# Altium schematic symbol library fpga.SchLib: 19 symbols (part 1 of 2)
Pins are listed as number, name and electrical type; pins without a type are passive.

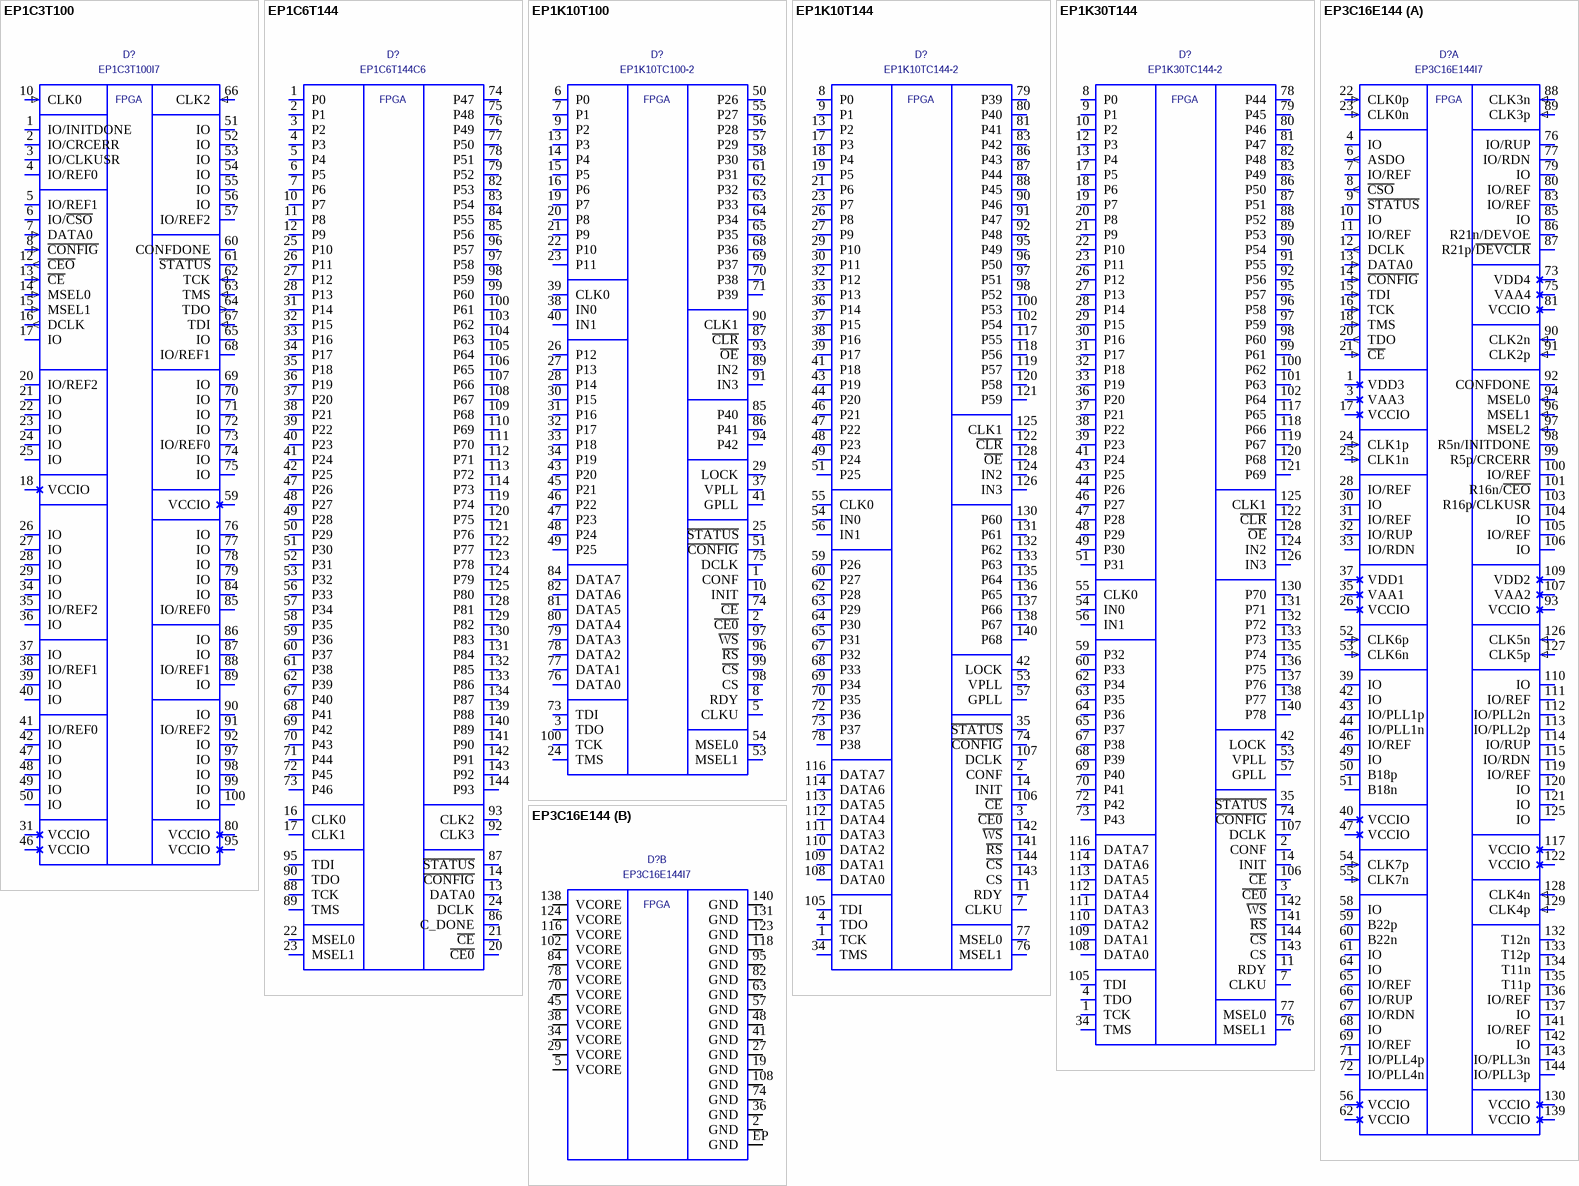
[diagram p0: symbols EP1C3T100 to EP3C16E144]

## EP1C3T100
designator D?  value EP1C3T100I7  (hidden comment: EP1C3T100)
footprint TQFP100
pins: 1 IO/INITDONE, 2 IO/CRCERR, 3 IO/CLKUSR, 4 IO/REF0, 5 IO/REF1, 6 IO/~{CSO}, 7 DATA0 (in), 8 ~{CONFIG} (in), 9 VCCINT (power) hidden, 10 CLK0 (in), 11 GND (power) hidden, 12 ~{CEO} (out), 13 ~{CE} (in), 14 MSEL0 (in), 15 MSEL1 (in), 16 DCLK (out), 17 IO, 18 VCCIO (power), 19 GND (power) hidden, 20 IO/REF2, 21 IO, 22 IO, 23 IO, 24 IO, 25 IO, 26 IO, 27 IO, 28 IO, 29 IO, 30 GND (power) hidden, 31 VCCIO (power), 32 GND (power) hidden, 33 VCCINT (power) hidden, 34 IO, 35 IO/REF2, 36 IO, 37 IO, 38 IO/REF1, 39 IO, 40 IO, 41 IO/REF0, 42 IO, 43 GND (power) hidden, 44 VCCINT (power) hidden, 45 GND (power) hidden, 46 VCCIO (power), 47 IO, 48 IO, 49 IO, 50 IO, 51 IO, 52 IO, 53 IO, 54 IO, 55 IO, 56 IO, 57 IO/REF2, 58 GND (power) hidden, 59 VCCIO (power), 60 CONFDONE (io), 61 ~{STATUS} (io), 62 TCK (in), 63 TMS (in), 64 TDO (out), 65 IO, 66 CLK2 (in), 67 TDI (in), 68 IO/REF1, 69 IO, 70 IO, 71 IO, 72 IO, 73 IO/REF0, 74 IO, 75 IO, 76 IO, 77 IO, 78 IO, 79 IO, 80 VCCIO (power), 81 GND (power) hidden, 82 VCCINT (power) hidden, 83 GND (power) hidden, 84 IO, 85 IO/REF0, 86 IO, 87 IO, 88 IO/REF1, 89 IO, 90 IO, 91 IO/REF2, 92 IO, 93 VCCINT (power) hidden, 94 GND (power) hidden, 95 VCCIO (power), 96 GND (power) hidden, 97 IO, 98 IO, 99 IO, 100 IO
text: FPGA

## EP1C6T144
designator D?  value EP1C6T144C6  (hidden comment: EP1C6T144)
footprint TQFP144
pins: 1 P0, 2 P1, 3 P2, 4 P3, 5 P4, 6 P5, 7 P6, 8 VIO (power) hidden, 9 GND (power) hidden, 10 P7, 11 P8, 12 P9, 13 DATA0, 14 ~{CONFIG}, 15 VINT (power) hidden, 16 CLK0, 17 CLK1, 18 GND (power) hidden, 19 GND (power) hidden, 20 ~{CE0}, 21 ~{CE}, 22 MSEL0, 23 MSEL1, 24 DCLK, 25 P10, 26 P11, 27 P12, 28 P13, 29 VIO (power) hidden, 30 GND (power) hidden, 31 P14, 32 P15, 33 P16, 34 P17, 35 P18, 36 P19, 37 P20, 38 P21, 39 P22, 40 P23, 41 P24, 42 P25, 43 GND (power) hidden, 44 VIO (power) hidden, 45 GND (power) hidden, 46 VINT (power) hidden, 47 P26, 48 P27, 49 P28, 50 P29, 51 P30, 52 P31, 53 P32, 54 GND (power) hidden, 55 VINT (power) hidden, 56 P33, 57 P34, 58 P35, 59 P36, 60 P37, 61 P38, 62 P39, 63 GND (power) hidden, 64 VINT (power) hidden, 65 GND (power) hidden, 66 VIO (power) hidden, 67 P40, 68 P41, 69 P42, 70 P43, 71 P44, 72 P45, 73 P46, 74 P47, 75 P48, 76 P49, 77 P50, 78 P51, 79 P52, 80 GND (power) hidden, 81 VIO (power) hidden, 82 P53, 83 P54, 84 P55, 85 P56, 86 C_DONE, 87 ~{STATUS}, 88 TCK, 89 TMS, 90 TDO, 91 GND (power) hidden, 92 CLK3, 93 CLK2, 94 VINT (power) hidden, 95 TDI, 96 P57, 97 P58, 98 P59, 99 P60, 100 P61, 101 GND (power) hidden, 102 VIO (power) hidden, 103 P62, 104 P63, 105 P64, 106 P65, 107 P66, 108 P67, 109 P68, 110 P69, 111 P70, 112 P71, 113 P72, 114 P73, 115 VIO (power) hidden, 116 GND (power) hidden, 117 VINT (power) hidden, 118 GND (power) hidden, 119 P74, 120 P75, 121 P76, 122 P77, 123 P78, 124 P79, 125 P80, 126 VINT (power) hidden, 127 GND (power) hidden, 128 P81, 129 P82, 130 P83, 131 P84, 132 P85, 133 P86, 134 P87, 135 VINT (power) hidden, 136 GND (power) hidden, 137 VIO (power) hidden, 138 GND (power) hidden, 139 P88, 140 P89, 141 P90, 142 P91, 143 P92, 144 P93
text: FPGA

## EP1K10T100
designator D?  value EP1K10TC100-2  (hidden comment: EP1K10T100)
footprint TQFP100
pins: 1 CONF, 2 ~{CE0}, 3 TDO, 4 VCC (power) hidden, 5 CLKU, 6 P0, 7 P1, 8 RDY, 9 P2, 10 INIT, 11 GND (power) hidden, 12 VINT (power) hidden, 13 P3, 14 P4, 15 P5, 16 P6, 17 VCC (power) hidden, 18 GND (power) hidden, 19 P7, 20 P8, 21 P9, 22 P10, 23 P11, 24 TMS, 25 ~{STATUS}, 26 P12, 27 P13, 28 P14, 29 LOCK, 30 P15, 31 P16, 32 P17, 33 P18, 34 P19, 35 VINT (power) hidden, 36 GND (power) hidden, 37 VPLL, 38 IN0, 39 CLK0, 40 IN1, 41 GPLL, 42 GND (power) hidden, 43 P20, 44 VCC (power) hidden, 45 P21, 46 P22, 47 P23, 48 P24, 49 P25, 50 P26, 51 ~{CONFIG}, 52 VINT (power) hidden, 53 MSEL1, 54 MSEL0, 55 P27, 56 P28, 57 P29, 58 P30, 59 GND (power) hidden, 60 VINT (power) hidden, 61 P31, 62 P32, 63 P33, 64 P34, 65 P35, 66 GND (power) hidden, 67 VCC (power) hidden, 68 P36, 69 P37, 70 P38, 71 P39, 72 VINT (power) hidden, 73 TDI, 74 ~{CE}, 75 DCLK, 76 DATA0, 77 DATA1, 78 DATA2, 79 DATA3, 80 DATA4, 81 DATA5, 82 DATA6, 83 VCC (power) hidden, 84 DATA7, 85 P40, 86 P41, 87 ~{CLR}, 88 GND (power) hidden, 89 IN2, 90 CLK1, 91 IN3, 92 VINT (power) hidden, 93 ~{OE}, 94 P42, 95 GND (power) hidden, 96 ~{RS}, 97 ~{WS}, 98 CS, 99 ~{CS}, 100 TCK
text: FPGA

## EP1K10T144
designator D?  value EP1K10TC144-2  (hidden comment: EP1K10T144)
footprint TQFP144
pins: 1 TCK, 2 CONF, 3 ~{CE0}, 4 TDO, 5 VCC (power) hidden, 6 GND (power) hidden, 7 CLKU, 8 P0, 9 P1, 10 hidden, 11 RDY, 12 hidden, 13 P2, 14 INIT, 15 GND (power) hidden, 16 VINT (power) hidden, 17 P3, 18 P4, 19 P5, 20 hidden, 21 P6, 22 hidden, 23 P7, 24 VCC (power) hidden, 25 GND (power) hidden, 26 P8, 27 P9, 28 hidden, 29 P10, 30 P11, 31 hidden, 32 P12, 33 P13, 34 TMS, 35 ~{STATUS}, 36 P14, 37 P15, 38 P16, 39 P17, 40 GND (power) hidden, 41 P18, 42 LOCK, 43 P19, 44 P20, 45 VCC (power) hidden, 46 P21, 47 P22, 48 P23, 49 P24, 50 VINT (power) hidden, 51 P25, 52 GND (power) hidden, 53 VPLL, 54 IN0, 55 CLK0, 56 IN1, 57 GPLL, 58 GND (power) hidden, 59 P26, 60 P27, 61 VCC (power) hidden, 62 P28, 63 P29, 64 P30, 65 P31, 66 GND (power) hidden, 67 P32, 68 P33, 69 P34, 70 P35, 71 VCC (power) hidden, 72 P36, 73 P37, 74 ~{CONFIG}, 75 VINT (power) hidden, 76 MSEL1, 77 MSEL0, 78 P38, 79 P39, 80 P40, 81 P41, 82 hidden, 83 P42, 84 GND (power) hidden, 85 VINT (power) hidden, 86 P43, 87 P44, 88 P45, 89 hidden, 90 P46, 91 P47, 92 P48, 93 GND (power) hidden, 94 VCC (power) hidden, 95 P49, 96 P50, 97 P51, 98 P52, 99 hidden, 100 P53, 101 hidden, 102 P54, 103 VINT (power) hidden, 104 GND (power) hidden, 105 TDI, 106 ~{CE}, 107 DCLK, 108 DATA0, 109 DATA1, 110 DATA2, 111 DATA3, 112 DATA4, 113 DATA5, 114 DATA6, 115 VCC (power) hidden, 116 DATA7, 117 P55, 118 P56, 119 P57, 120 P58, 121 P59, 122 ~{CLR}, 123 GND (power) hidden, 124 IN2, 125 CLK1, 126 IN3, 127 VINT (power) hidden, 128 ~{OE}, 129 GND (power) hidden, 130 P60, 131 P61, 132 P62, 133 P63, 134 VCC (power) hidden, 135 P64, 136 P65, 137 P66, 138 P67, 139 GND (power) hidden, 140 P68, 141 ~{RS}, 142 ~{WS}, 143 CS, 144 ~{CS}
text: FPGA

## EP1K30T144
designator D?  value EP1K30TC144-2  (hidden comment: EP1K30T144)
footprint TQFP144
pins: 1 TCK, 2 CONF, 3 ~{CE0}, 4 TDO, 5 VCC (power) hidden, 6 GND (power) hidden, 7 CLKU, 8 P0, 9 P1, 10 P2, 11 RDY, 12 P3, 13 P4, 14 INIT, 15 GND (power) hidden, 16 VINT (power) hidden, 17 P5, 18 P6, 19 P7, 20 P8, 21 P9, 22 P10, 23 P11, 24 VCC (power) hidden, 25 GND (power) hidden, 26 P12, 27 P13, 28 P14, 29 P15, 30 P16, 31 P17, 32 P18, 33 P19, 34 TMS, 35 ~{STATUS}, 36 P20, 37 P21, 38 P22, 39 P23, 40 GND (power) hidden, 41 P24, 42 LOCK, 43 P25, 44 P26, 45 VCC (power) hidden, 46 P27, 47 P28, 48 P29, 49 P30, 50 VINT (power) hidden, 51 P31, 52 GND (power) hidden, 53 VPLL, 54 IN0, 55 CLK0, 56 IN1, 57 GPLL, 58 GND (power) hidden, 59 P32, 60 P33, 61 VCC (power) hidden, 62 P34, 63 P35, 64 P36, 65 P37, 66 GND (power) hidden, 67 P38, 68 P39, 69 P40, 70 P41, 71 VCC (power) hidden, 72 P42, 73 P43, 74 ~{CONFIG}, 75 VINT (power) hidden, 76 MSEL1, 77 MSEL0, 78 P44, 79 P45, 80 P46, 81 P47, 82 P48, 83 P49, 84 GND (power) hidden, 85 VINT (power) hidden, 86 P50, 87 P51, 88 P52, 89 P53, 90 P54, 91 P55, 92 P56, 93 GND (power) hidden, 94 VCC (power) hidden, 95 P57, 96 P58, 97 P59, 98 P60, 99 P61, 100 P62, 101 P63, 102 P64, 103 VINT (power) hidden, 104 GND (power) hidden, 105 TDI, 106 ~{CE}, 107 DCLK, 108 DATA0, 109 DATA1, 110 DATA2, 111 DATA3, 112 DATA4, 113 DATA5, 114 DATA6, 115 VCC (power) hidden, 116 DATA7, 117 P65, 118 P66, 119 P67, 120 P68, 121 P69, 122 ~{CLR}, 123 GND (power) hidden, 124 IN2, 125 CLK1, 126 IN3, 127 VINT (power) hidden, 128 ~{OE}, 129 GND (power) hidden, 130 P70, 131 P71, 132 P72, 133 P73, 134 VCC (power) hidden, 135 P74, 136 P75, 137 P76, 138 P77, 139 GND (power) hidden, 140 P78, 141 ~{RS}, 142 ~{WS}, 143 CS, 144 ~{CS}
text: FPGA

## EP3C16E144
designator D?, comment EP3C16E144I7
EP3C16E144; Value: EP3C16E144I7
footprint EQFP144
part A pins: 1 VDD3 (power), 3 VAA3 (power), 4 IO, 6 ASDO (out), 7 IO/REF, 8 ~{CSO} (out), 9 ~{STATUS} (io), 10 IO, 11 IO/REF, 12 DCLK (out), 13 DATA0 (in), 14 ~{CONFIG} (in), 15 TDI (in), 16 TCK (in), 17 VCCIO (power), 18 TMS (in), 20 TDO (out), 21 ~{CE} (in), 22 CLK0p (in), 23 CLK0n (in), 24 CLK1p (in), 25 CLK1n (in), 26 VCCIO (power), 28 IO/REF, 30 IO, 31 IO/REF, 32 IO/RUP, 33 IO/RDN, 35 VAA1 (power), 37 VDD1 (power), 39 IO, 40 VCCIO (power), 42 IO, 43 IO/PLL1p, 44 IO/PLL1n, 46 IO/REF, 47 VCCIO (power), 49 IO, 50 B18p, 51 B18n, 52 CLK6p (in), 53 CLK6n (in), 54 CLK7p (in), 55 CLK7n (in), 56 VCCIO (power), 58 IO, 59 B22p, 60 B22n, 61 IO, 62 VCCIO (power), 64 IO, 65 IO/REF, 66 IO/RUP, 67 IO/RDN, 68 IO, 69 IO/REF, 71 IO/PLL4p, 72 IO/PLL4n, 73 VDD4 (power), 75 VAA4 (power), 76 IO/RUP, 77 IO/RDN, 79 IO, 80 IO/REF, 81 VCCIO (power), 83 IO/REF, 85 IO, 86 R21n/DEVOE, 87 R21p/~{DEVCLR}, 88 CLK3n (in), 89 CLK3p (in), 90 CLK2n (in), 91 CLK2p (in), 92 CONFDONE (io), 93 VCCIO (power), 94 MSEL0 (in), 96 MSEL1 (in), 97 MSEL2 (in), 98 R5n/INITDONE, 99 R5p/CRCERR, 100 IO/REF, 101 R16n/~{CEO}, 103 R16p/CLKUSR, 104 IO, 105 IO/REF, 106 IO, 107 VAA2 (power), 109 VDD2 (power), 110 IO, 111 IO/REF, 112 IO/PLL2n, 113 IO/PLL2p, 114 IO/RUP, 115 IO/RDN, 117 VCCIO (power), 119 IO/REF, 120 IO, 121 IO, 122 VCCIO (power), 125 IO, 126 CLK5n (in), 127 CLK5p (in), 128 CLK4n (in), 129 CLK4p (in), 130 VCCIO (power), 132 T12n, 133 T12p, 134 T11n, 135 T11p, 136 IO/REF, 137 IO, 139 VCCIO (power), 141 IO/REF, 142 IO, 143 IO/PLL3n, 144 IO/PLL3p
part B pins: 2 GND (power), 5 VCORE (power), 19 GND (power), 27 GND (power), 29 VCORE (power), 34 VCORE (power), 36 GND (power), 38 VCORE (power), 41 GND (power), 45 VCORE (power), 48 GND (power), 57 GND (power), 63 GND (power), 70 VCORE (power), 74 GND (power), 78 VCORE (power), 82 GND (power), 84 VCORE (power), 95 GND (power), 102 VCORE (power), 108 GND (power), 116 VCORE (power), 118 GND (power), 123 GND (power), 124 VCORE (power), 131 GND (power), 138 VCORE (power), 140 GND (power), EP GND (power)
part A text: FPGA
part B text: FPGA

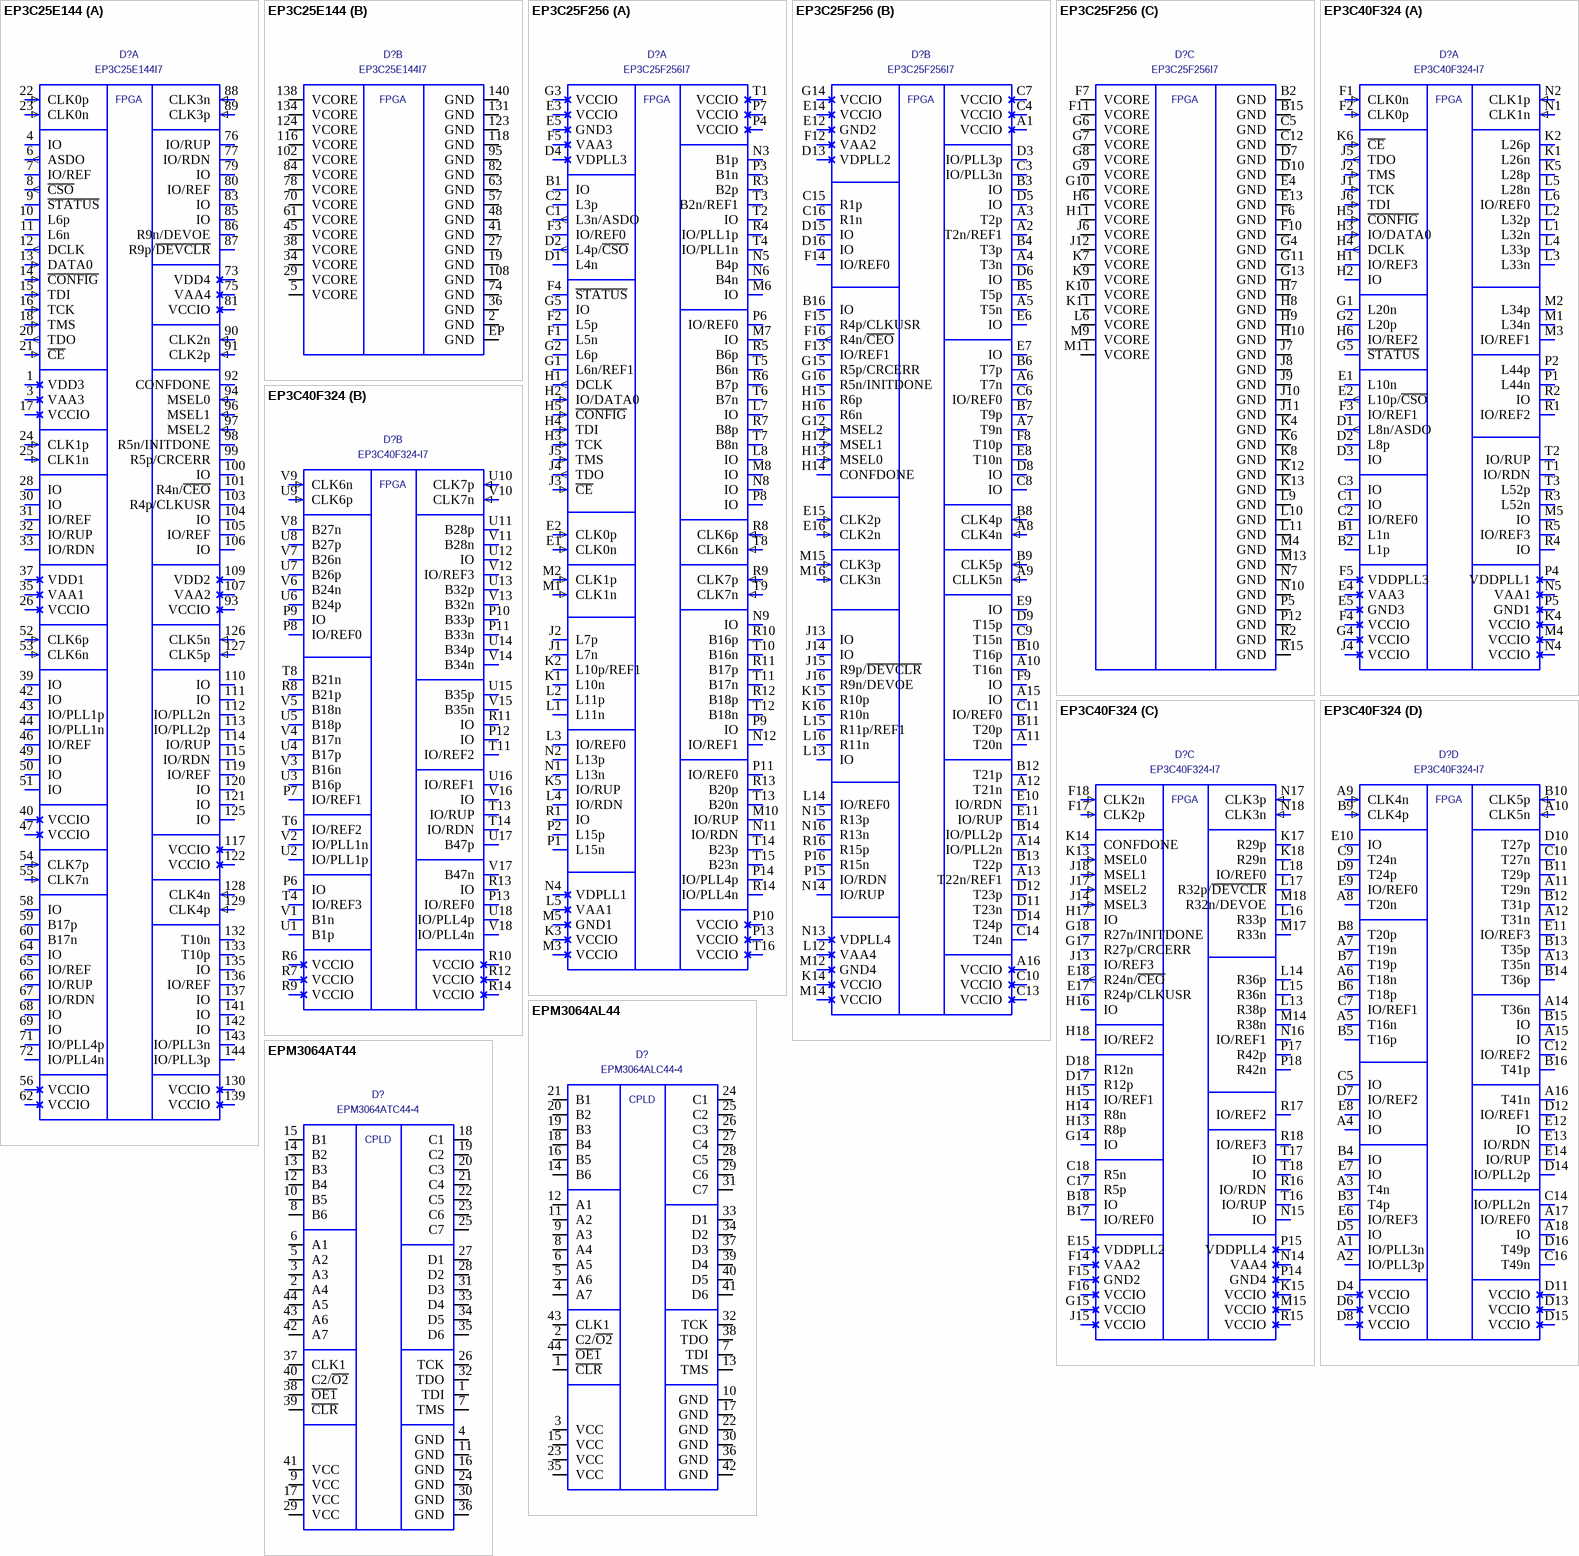
[diagram p1: symbols EP3C25E144 to EPM3064AT44]

## EP3C25E144
designator D?, comment EP3C25E144I7
EP3C25E144; Value: EP3C25E144I7
footprint EQFP144
part A pins: 1 VDD3 (power), 3 VAA3 (power), 4 IO, 6 ASDO (out), 7 IO/REF, 8 ~{CSO} (out), 9 ~{STATUS} (io), 10 L6p, 11 L6n, 12 DCLK (out), 13 DATA0 (in), 14 ~{CONFIG} (in), 15 TDI (in), 16 TCK (in), 17 VCCIO (power), 18 TMS (in), 20 TDO (out), 21 ~{CE} (in), 22 CLK0p (in), 23 CLK0n (in), 24 CLK1p (in), 25 CLK1n (in), 26 VCCIO (power), 28 IO, 30 IO, 31 IO/REF, 32 IO/RUP, 33 IO/RDN, 35 VAA1 (power), 37 VDD1 (power), 39 IO, 40 VCCIO (power), 42 IO, 43 IO/PLL1p, 44 IO/PLL1n, 46 IO/REF, 47 VCCIO (power), 49 IO, 50 IO, 51 IO, 52 CLK6p (in), 53 CLK6n (in), 54 CLK7p (in), 55 CLK7n (in), 56 VCCIO (power), 58 IO, 59 B17p, 60 B17n, 62 VCCIO (power), 64 IO, 65 IO/REF, 66 IO/RUP, 67 IO/RDN, 68 IO, 69 IO, 71 IO/PLL4p, 72 IO/PLL4n, 73 VDD4 (power), 75 VAA4 (power), 76 IO/RUP, 77 IO/RDN, 79 IO, 80 IO/REF, 81 VCCIO (power), 83 IO, 85 IO, 86 R9n/DEVOE, 87 R9p/~{DEVCLR}, 88 CLK3n (in), 89 CLK3p (in), 90 CLK2n (in), 91 CLK2p (in), 92 CONFDONE (io), 93 VCCIO (power), 94 MSEL0 (in), 96 MSEL1 (in), 97 MSEL2 (in), 98 R5n/INITDONE, 99 R5p/CRCERR, 100 IO, 101 R4n/~{CEO}, 103 R4p/CLKUSR, 104 IO, 105 IO/REF, 106 IO, 107 VAA2 (power), 109 VDD2 (power), 110 IO, 111 IO, 112 IO/PLL2n, 113 IO/PLL2p, 114 IO/RUP, 115 IO/RDN, 117 VCCIO (power), 119 IO/REF, 120 IO, 121 IO, 122 VCCIO (power), 125 IO, 126 CLK5n (in), 127 CLK5p (in), 128 CLK4n (in), 129 CLK4p (in), 130 VCCIO (power), 132 T10n, 133 T10p, 135 IO, 136 IO/REF, 137 IO, 139 VCCIO (power), 141 IO, 142 IO, 143 IO/PLL3n, 144 IO/PLL3p
part B pins: 2 GND (power), 5 VCORE (power), 19 GND (power), 27 GND (power), 29 VCORE (power), 34 VCORE (power), 36 GND (power), 38 VCORE (power), 41 GND (power), 45 VCORE (power), 48 GND (power), 57 GND (power), 61 VCORE (power), 63 GND (power), 70 VCORE (power), 74 GND (power), 78 VCORE (power), 82 GND (power), 84 VCORE (power), 95 GND (power), 102 VCORE (power), 108 GND (power), 116 VCORE (power), 118 GND (power), 123 GND (power), 124 VCORE (power), 131 GND (power), 134 VCORE (power), 138 VCORE (power), 140 GND (power), EP GND (power)
part A text: FPGA
part B text: FPGA

## EP3C25F256
designator D?, comment EP3C25F256I7
EP3C25F256; Value: EP3C25F256I7
footprint FBGA-256
footprint UBGA-256
part A pins: B1 IO, C1 L3n/ASDO (out), C2 L3p, D1 L4n, D2 L4p/~{CSO} (out), D4 VDPLL3 (power), E1 CLK0n (in), E2 CLK0p (in), E3 VCCIO (power), E5 GND3 (power), F1 L5n, F2 L5p, F3 IO/REF0, F4 ~{STATUS} (io), F5 VAA3 (power), G1 L6n/REF1, G2 L6p, G3 VCCIO (power), G5 IO, H1 DCLK (out), H2 IO/DATA0 (in), H3 TCK (in), H4 TDI (in), H5 ~{CONFIG} (in), J1 L7n, J2 L7p, J3 ~{CE} (in), J4 TDO (out), J5 TMS (in), K1 L10n, K2 L10p/REF1, K3 VCCIO (power), K5 IO/RUP, L1 L11n, L2 L11p, L3 IO/REF0, L4 IO/RDN, L5 VAA1 (power), L7 IO, L8 IO, M1 CLK1n (in), M2 CLK1p (in), M3 VCCIO (power), M5 GND1 (power), M6 IO, M7 IO, M8 IO, M10 IO/RUP, N1 L13n, N2 L13p, N3 B1p, N4 VDPLL1 (power), N5 B4p, N6 B4n, N8 IO, N9 IO, N11 IO/RDN, N12 IO/REF1, P1 L15n, P2 L15p, P3 B1n, P4 VCCIO (power), P6 IO/REF0, P7 VCCIO (power), P8 IO, P9 IO, P10 VCCIO (power), P11 IO/REF0, P13 VCCIO (power), P14 IO/PLL4p, R1 IO, R3 B2p, R4 IO/PLL1p, R5 B6p, R6 B7p, R7 B8p, R8 CLK6p (in), R9 CLK7p (in), R10 B16p, R11 B17p, R12 B18p, R13 B20p, R14 IO/PLL4n, T1 VCCIO (power), T2 IO, T3 B2n/REF1, T4 IO/PLL1n, T5 B6n, T6 B7n, T7 B8n, T8 CLK6n (in), T9 CLK7n (in), T10 B16n, T11 B17n, T12 B18n, T13 B20n, T14 B23p, T15 B23n, T16 VCCIO (power)
part B pins: A1 VCCIO (power), A2 T2n/REF1, A3 T2p, A4 T3n, A5 T5n, A6 T7n, A7 T9n, A8 CLK4n (in), A9 CLLK5n (in), A10 T16n, A11 T20n, A12 T21n, A13 T22n/REF1, A14 IO/PLL2n, A15 IO, A16 VCCIO (power), B3 IO, B4 T3p, B5 T5p, B6 T7p, B7 T9p, B8 CLK4p (in), B9 CLK5p (in), B10 T16p, B11 T20p, B12 T21p, B13 T22p, B14 IO/PLL2p, B16 IO, C3 IO/PLL3n, C4 VCCIO (power), C6 IO/REF0, C7 VCCIO (power), C8 IO, C9 T15n, C10 VCCIO (power), C11 IO/REF0, C13 VCCIO (power), C14 T24n, C15 R1p, C16 R1n, D3 IO/PLL3p, D5 IO, D6 IO, D8 IO, D9 T15p, D11 T23n, D12 T23p, D13 VDPLL2 (power), D14 T24p, D15 IO, D16 IO, E6 IO, E7 IO, E8 T10n, E9 IO, E10 IO/RDN, E11 IO/RUP, E12 GND2 (power), E14 VCCIO (power), E15 CLK2p (in), E16 CLK2n (in), F8 T10p, F9 IO, F12 VAA2 (power), F13 IO/REF1, F14 IO/REF0, F15 R4p/CLKUSR, F16 R4n/~{CEO} (out), G12 MSEL2 (in), G14 VCCIO (power), G15 R5p/CRCERR, G16 R5n/INITDONE, H12 MSEL1 (in), H13 MSEL0 (in), H14 CONFDONE (io), H15 R6p, H16 R6n, J13 IO, J14 IO, J15 R9p/~{DEVCLR}, J16 R9n/DEVOE, K14 VCCIO (power), K15 R10p, K16 R10n, L12 VAA4 (power), L13 IO, L14 IO/REF0, L15 R11p/REF1, L16 R11n, M12 GND4 (power), M14 VCCIO (power), M15 CLK3p (in), M16 CLK3n (in), N13 VDPLL4 (power), N14 IO/RUP, N15 R13p, N16 R13n, P15 IO/RDN, P16 R15n, R16 R15p
part C pins: B2 GND (power), B15 GND (power), C5 GND (power), C12 GND (power), D7 GND (power), D10 GND (power), E4 GND (power), E13 GND (power), F6 GND (power), F7 VCORE (power), F10 GND (power), F11 VCORE (power), G4 GND (power), G6 VCORE (power), G7 VCORE (power), G8 VCORE (power), G9 VCORE (power), G10 VCORE (power), G11 GND (power), G13 GND (power), H6 VCORE (power), H7 GND (power), H8 GND (power), H9 GND (power), H10 GND (power), H11 VCORE (power), J6 VCORE (power), J7 GND (power), J8 GND (power), J9 GND (power), J10 GND (power), J11 GND (power), J12 VCORE (power), K4 GND (power), K6 GND (power), K7 VCORE (power), K8 GND (power), K9 VCORE (power), K10 VCORE (power), K11 VCORE (power), K12 GND (power), K13 GND (power), L6 VCORE (power), L9 GND (power), L10 GND (power), L11 GND (power), M4 GND (power), M9 VCORE (power), M11 VCORE (power), M13 GND (power), N7 GND (power), N10 GND (power), P5 GND (power), P12 GND (power), R2 GND (power), R15 GND (power)
part A text: FPGA
part B text: FPGA
part C text: FPGA

## EP3C40F324
designator D?  value EP3C40F324-I7  (hidden comment: EP3C40F324)
footprint FBGA-324
pins on every part: C4 GND (power) hidden, C6 GND (power) hidden, C8 GND (power) hidden, C11 GND (power) hidden, C13 GND (power) hidden, C15 GND (power) hidden, E3 GND (power) hidden, E16 GND (power) hidden, F6 VCCINT (power) hidden, F7 GND (power) hidden, F8 VCCINT (power) hidden, F9 GND (power) hidden, F10 VCCINT (power) hidden, F11 GND (power) hidden, F12 VCCINT (power) hidden, F13 GND (power) hidden, G3 GND (power) hidden, G6 GND (power) hidden, G7 VCCINT (power) hidden, G8 VCCINT (power) hidden, G9 GND (power) hidden, G10 VCCINT (power) hidden, G11 VCCINT (power) hidden, G12 VCCINT (power) hidden, G13 VCCINT (power) hidden, G16 GND (power) hidden, H7 VCCINT (power) hidden, H8 GND (power) hidden, H9 GND (power) hidden, H10 GND (power) hidden, H11 GND (power) hidden, H12 VCCINT (power) hidden, J3 GND (power) hidden, J7 VCCINT (power) hidden, J8 GND (power) hidden, J9 GND (power) hidden, J10 GND (power) hidden, J11 GND (power) hidden, J12 VCCINT (power) hidden, J16 GND (power) hidden, K3 GND (power) hidden, K7 VCCINT (power) hidden, K8 GND (power) hidden, K9 GND (power) hidden, K10 GND (power) hidden, K11 GND (power) hidden, K12 VCCINT (power) hidden, K16 GND (power) hidden, L7 VCCINT (power) hidden, L8 GND (power) hidden, L9 GND (power) hidden, L10 GND (power) hidden, L11 GND (power) hidden, L12 VCCINT (power) hidden, M6 VCCINT (power) hidden, M7 VCCINT (power) hidden, M8 VCCINT (power) hidden, M9 VCCINT (power) hidden, M10 GND (power) hidden, M11 VCCINT (power) hidden, M12 VCCINT (power) hidden, M13 GND (power) hidden, M16 GND (power) hidden, N3 GND (power) hidden, N6 GND (power) hidden, N7 VCCINT (power) hidden, N8 GND (power) hidden, N9 VCCINT (power) hidden, N10 GND (power) hidden, N11 VCCINT (power) hidden, N12 GND (power) hidden, N13 VCCINT (power) hidden, P3 GND (power) hidden, P16 GND (power) hidden, T5 GND (power) hidden, T7 GND (power) hidden, T9 GND (power) hidden, T10 GND (power) hidden, T12 GND (power) hidden, T15 GND (power) hidden
part A pins: B1 L1n, B2 L1p, C1 IO, C2 IO/REF0, C3 IO, D1 L8n/ASDO (out), D2 L8p, D3 IO, E1 L10n, E2 L10p/~{CSO} (out), E4 VAA3 (power), E5 GND3 (power), F1 CLK0n (in), F2 CLK0p (in), F3 IO/REF1, F4 VCCIO (power), F5 VDDPLL3 (power), G1 L20n, G2 L20p, G4 VCCIO (power), G5 ~{STATUS} (io), H1 IO/REF3, H2 IO, H3 IO/DATA0 (in), H4 DCLK (out), H5 ~{CONFIG} (in), H6 IO/REF2, J1 TCK (in), J2 TMS (in), J4 VCCIO (power), J5 TDO (out), J6 TDI (in), K1 L26n, K2 L26p, K4 VCCIO (power), K5 L28p, K6 ~{CE} (in), L1 L32n, L2 L32p, L3 L33n, L4 L33p, L5 L28n, L6 IO/REF0, M1 L34n, M2 L34p, M3 IO/REF1, M4 VCCIO (power), M5 IO, N1 CLK1n (in), N2 CLK1p (in), N4 VCCIO (power), N5 VAA1 (power), P1 L44n, P2 L44p, P4 VDDPLL1 (power), P5 GND1 (power), R1 IO/REF2, R2 IO, R3 L52n, R4 IO, R5 IO/REF3, T1 IO/RDN, T2 IO/RUP, T3 L52p
part B pins: P6 IO, P7 IO/REF1, P8 IO/REF0, P9 IO, P10 B33p, P11 B33n, P12 IO, P13 IO/REF0, R6 VCCIO (power), R7 VCCIO (power), R8 B21p, R9 VCCIO (power), R10 VCCIO (power), R11 IO, R12 VCCIO (power), R13 IO, R14 VCCIO (power), T4 IO/REF3, T6 IO/REF2, T8 B21n, T11 IO/REF2, T13 IO/RUP, T14 IO/RDN, U1 B1p, U2 IO/PLL1p, U3 B16p, U4 B17p, U5 B18p, U6 B24p, U7 B26p, U8 B27p, U9 CLK6p (in), U10 CLK7p (in), U11 B28p, U12 IO, U13 B32p, U14 B34p, U15 B35p, U16 IO/REF1, U17 B47p, U18 IO/PLL4p, V1 B1n, V2 IO/PLL1n, V3 B16n, V4 B17n, V5 B18n, V6 B24n, V7 B26n, V8 B27n, V9 CLK6n (in), V10 CLK7n (in), V11 B28n, V12 IO/REF3, V13 B32n, V14 B34n, V15 B35n, V16 IO, V17 B47n, V18 IO/PLL4n
part C pins: B17 IO/REF0, B18 IO, C17 R5p, C18 R5n, D17 R12p, D18 R12n, E15 VDDPLL2 (power), E17 R24p/CLKUSR, E18 R24n/~{CEO} (out), F14 VAA2 (power), F15 GND2 (power), F16 VCCIO (power), F17 CLK2p (in), F18 CLK2n (in), G14 IO, G15 VCCIO (power), G17 R27p/CRCERR, G18 R27n/INITDONE, H13 R8p, H14 R8n, H15 IO/REF1, H16 IO, H17 IO, H18 IO/REF2, J13 IO/REF3, J14 MSEL3 (in), J15 VCCIO (power), J17 MSEL2 (in), J18 MSEL1 (in), K13 MSEL0 (in), K14 CONFDONE (io), K15 VCCIO (power), K17 R29p, K18 R29n, L13 R38p, L14 R36p, L15 R36n, L16 R33p, L17 R32p/~{DEVCLR}, L18 IO/REF0, M14 R38n, M15 VCCIO (power), M17 R33n, M18 R32n/DEVOE, N14 VAA4 (power), N15 IO, N16 IO/REF1, N17 CLK3p (in), N18 CLK3n (in), P14 GND4 (power), P15 VDDPLL4 (power), P17 R42p, P18 R42n, R15 VCCIO (power), R16 IO/RDN, R17 IO/REF2, R18 IO/REF3, T16 IO/RUP, T17 IO, T18 IO
part D pins: A1 IO/PLL3n, A2 IO/PLL3p, A3 T4n, A4 IO, A5 T16n, A6 T18n, A7 T19n, A8 T20n, A9 CLK4n (in), A10 CLK5n (in), A11 T29n, A12 T31n, A13 T35n, A14 T36n, A15 IO, A16 T41n, A17 IO/REF0, A18 IO, B3 T4p, B4 IO, B5 T16p, B6 T18p, B7 T19p, B8 T20p, B9 CLK4p (in), B10 CLK5p (in), B11 T29p, B12 T31p, B13 T35p, B14 T36p, B15 IO, B16 T41p, C5 IO, C7 IO/REF1, C9 T24n, C10 T27n, C12 IO/REF2, C14 IO/PLL2n, C16 T49n, D4 VCCIO (power), D5 IO, D6 VCCIO (power), D7 IO/REF2, D8 VCCIO (power), D9 T24p, D10 T27p, D11 VCCIO (power), D12 IO/REF1, D13 VCCIO (power), D14 IO/PLL2p, D15 VCCIO (power), D16 T49p, E6 IO/REF3, E7 IO, E8 IO, E9 IO/REF0, E10 IO, E11 IO/REF3, E12 IO, E13 IO/RDN, E14 IO/RUP
part A text: FPGA
part B text: FPGA
part C text: FPGA
part D text: FPGA

## EPM3064AL44
designator D?, comment EPM3064ALC44-4
CPLD Altera MAX; Value: EPM3064ALC44-4
footprint PLCC44
pins: 1 ~{CLR}, 2 C2/~{O2}, 3 VCC (power), 4 A7, 5 A6, 6 A5, 7 TDI, 8 A4, 9 A3, 10 GND (power), 11 A2, 12 A1, 13 TMS, 14 B6, 15 VCC (power), 16 B5, 17 GND (power), 18 B4, 19 B3, 20 B2, 21 B1, 22 GND (power), 23 VCC (power), 24 C1, 25 C2, 26 C3, 27 C4, 28 C5, 29 C6, 30 GND (power), 31 C7, 32 TCK, 33 D1, 34 D2, 35 VCC (power), 36 GND (power), 37 D3, 38 TDO, 39 D4, 40 D5, 41 D6, 42 GND (power), 43 CLK1, 44 ~{OE1}
text: CPLD

## EPM3064AT44
designator D?, comment EPM3064ATC44-4
CPLD Altera MAX; Value: EPM3064ATC44-4
footprint TQFP44
pins: 1 TDI, 2 A4, 3 A3, 4 GND (power), 5 A2, 6 A1, 7 TMS, 8 B6, 9 VCC (power), 10 B5, 11 GND (power), 12 B4, 13 B3, 14 B2, 15 B1, 16 GND (power), 17 VCC (power), 18 C1, 19 C2, 20 C3, 21 C4, 22 C5, 23 C6, 24 GND (power), 25 C7, 26 TCK, 27 D1, 28 D2, 29 VCC (power), 30 GND (power), 31 D3, 32 TDO, 33 D4, 34 D5, 35 D6, 36 GND (power), 37 CLK1, 38 ~{OE1}, 39 ~{CLR}, 40 C2/~{O2}, 41 VCC (power), 42 A7, 43 A6, 44 A5
text: CPLD

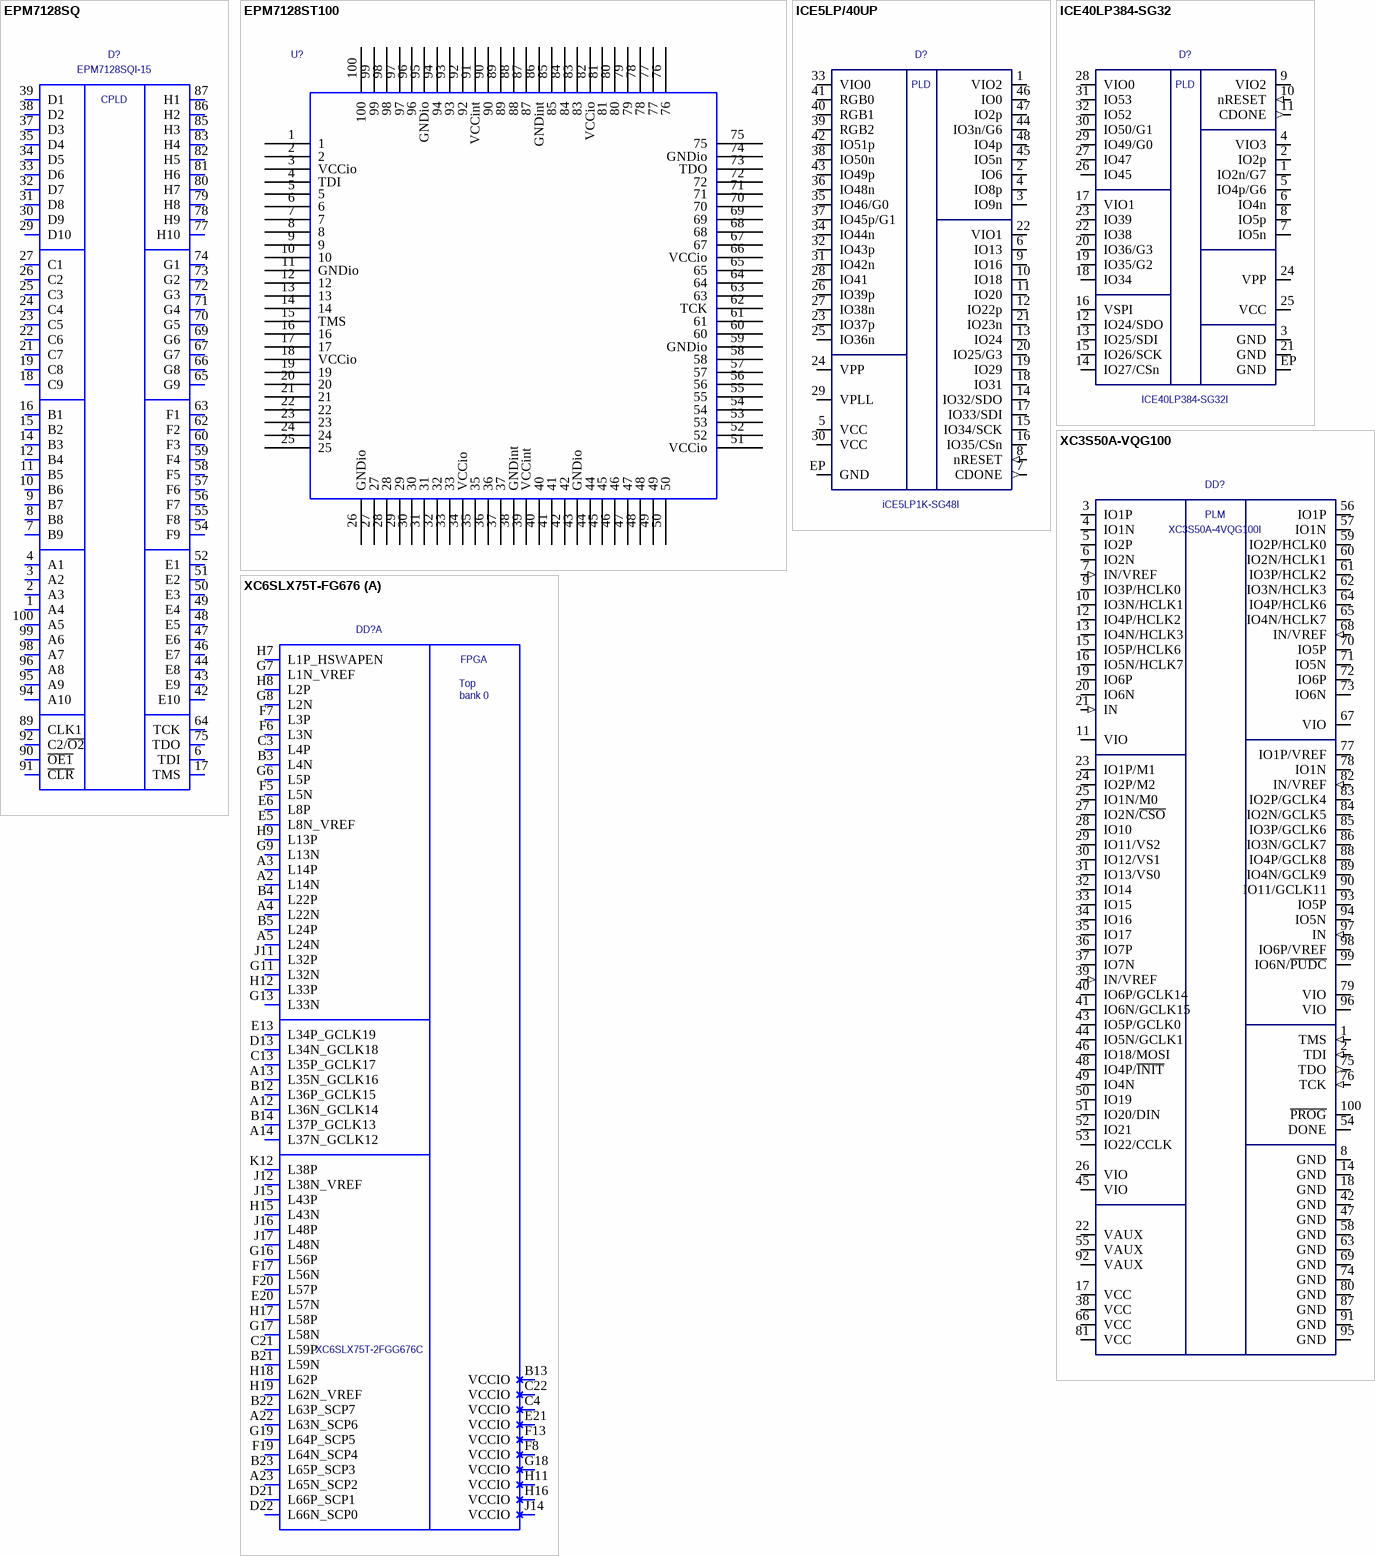
[diagram p2: symbols EPM7128SQ to XC6SLX75T-FG676]

## EPM7128SQ
designator D?  value EPM7128SQI-15  (hidden comment: *)
EPM7128SQ
footprint PQFP100
pins: 1 A4, 2 A3, 3 A2, 4 A1, 5 VCC (power) hidden, 6 TDI, 7 B9, 8 B8, 9 B7, 10 B6, 11 B5, 12 B4, 13 GND (power) hidden, 14 B3, 15 B2, 16 B1, 17 TMS, 18 C9, 19 C8, 20 VCC (power) hidden, 21 C7, 22 C6, 23 C5, 24 C4, 25 C3, 26 C2, 27 C1, 28 GND (power) hidden, 29 D10, 30 D9, 31 D8, 32 D7, 33 D6, 34 D5, 35 D4, 36 VCC (power) hidden, 37 D3, 38 D2, 39 D1, 40 GND (power) hidden, 41 VCC (power) hidden, 42 E10, 43 E9, 44 E8, 45 GND (power) hidden, 46 E7, 47 E6, 48 E5, 49 E4, 50 E3, 51 E2, 52 E1, 53 VCC (power) hidden, 54 F9, 55 F8, 56 F7, 57 F6, 58 F5, 59 F4, 60 F3, 61 GND (power) hidden, 62 F2, 63 F1, 64 TCK, 65 G9, 66 G8, 67 G7, 68 VCC (power) hidden, 69 G6, 70 G5, 71 G4, 72 G3, 73 G2, 74 G1, 75 TDO, 76 GND (power) hidden, 77 H10, 78 H9, 79 H8, 80 H7, 81 H6, 82 H5, 83 H4, 84 VCC (power) hidden, 85 H3, 86 H2, 87 H1, 88 GND (power) hidden, 89 CLK1, 90 ~{OE1}, 91 ~{CLR}, 92 C2/~{O2}, 93 VCC (power) hidden, 94 A10, 95 A9, 96 A8, 97 GND (power) hidden, 98 A7, 99 A6, 100 A5
text: CPLD

## EPM7128ST100
designator U?  (value not drawn)
EPM7128ST100; Value: *
footprint TQFP100
pins: 1, 2, 3 VCCio, 4 TDI, 5, 6, 7, 8, 9, 10, 11 GNDio, 12, 13, 14, 15 TMS, 16, 17, 18 VCCio, 19, 20, 21, 22, 23, 24, 25, 26 GNDio, 27, 28, 29, 30, 31, 32, 33, 34 VCCio, 35, 36, 37, 38 GNDint, 39 VCCint, 40, 41, 42, 43 GNDio, 44, 45, 46, 47, 48, 49, 50, 51 VCCio, 52, 53, 54, 55, 56, 57, 58, 59 GNDio, 60, 61, 62 TCK, 63, 64, 65, 66 VCCio, 67, 68, 69, 70, 71, 72, 73 TDO, 74 GNDio, 75, 76, 77, 78, 79, 80, 81, 82 VCCio, 83, 84, 85, 86 GNDint, 87, 88, 89, 90, 91 VCCint, 92, 93, 94, 95 GNDio, 96, 97, 98, 99, 100

## ICE5LP/40UP
designator D?, comment iCE5LP1K-SG48I
Lattice Ultra/Plus QFN48; Value: iCE5LP1K-SG48I
footprint MLF48-7mm
pins: 1 VIO2 (power), 2 IO6 (io), 3 IO9n (io), 4 IO8p (io), 5 VCC (power), 6 IO13 (io), 7 CDONE (out), 8 nRESET (in), 9 IO16 (io), 10 IO18 (io), 11 IO20 (io), 12 IO22p (io), 13 IO24 (io), 14 IO32/SDO (io), 15 IO34/SCK (io), 16 IO35/CSn (io), 17 IO33/SDI (io), 18 IO31 (io), 19 IO29 (io), 20 IO25/G3 (io), 21 IO23n (io), 22 VIO1 (power), 23 IO37p (io), 24 VPP (power), 25 IO36n (io), 26 IO39p (io), 27 IO38n (io), 28 IO41 (io), 29 VPLL (power), 30 VCC (power), 31 IO42n (io), 32 IO43p (io), 33 VIO0 (power), 34 IO44n (io), 35 IO46/G0 (io), 36 IO48n (io), 37 IO45p/G1 (io), 38 IO50n (io), 39 RGB2 (io), 40 RGB1 (io), 41 RGB0 (io), 42 IO51p (io), 43 IO49p (io), 44 IO3n/G6 (io), 45 IO5n (io), 46 IO0 (io), 47 IO2p (io), 48 IO4p (io), EP GND (power)
text: PLD

## ICE40LP384-SG32
designator D?, comment ICE40LP384-SG32I
Lattice Ultra QFN32; Value: ICE40LP384-SG32I
footprint MLF32
pins: 1 IO2n/G7 (io), 2 IO2p (io), 3 GND (power), 4 VIO3 (power), 5 IO4p/G6 (io), 6 IO4n (io), 7 IO5n (io), 8 IO5p (io), 9 VIO2 (power), 10 nRESET (in), 11 CDONE (out), 12 IO24/SDO (io), 13 IO25/SDI (io), 14 IO27/CSn (io), 15 IO26/SCK (io), 16 VSPI (power), 17 VIO1 (power), 18 IO34 (io), 19 IO35/G2 (io), 20 IO36/G3 (io), 21 GND (power), 22 IO38 (io), 23 IO39 (io), 24 VPP (power), 25 VCC (power), 26 IO45 (io), 27 IO47 (io), 28 VIO0 (power), 29 IO49/G0 (io), 30 IO50/G1 (io), 31 IO53 (io), 32 IO52 (io), EP GND (power)
text: PLD

## XC3S50A-VQG100
designator DD?, comment XC3S50A-4VQG100I
Value: XC3S50A-4VQG100I
footprint TQFP100
pins: 1 TMS (in), 2 TDI (in), 3 IO1P (io), 4 IO1N (io), 5 IO2P (io), 6 IO2N (io), 7 IN/VREF (in), 8 GND (power), 9 IO3P/HCLK0 (io), 10 IO3N/HCLK1 (io), 11 VIO (power), 12 IO4P/HCLK2 (io), 13 IO4N/HCLK3 (io), 14 GND (power), 15 IO5P/HCLK6 (io), 16 IO5N/HCLK7 (io), 17 VCC (power), 18 GND (power), 19 IO6P (io), 20 IO6N (io), 21 IN (in), 22 VAUX (power), 23 IO1P/M1 (io), 24 IO2P/M2 (io), 25 IO1N/M0 (io), 26 VIO (power), 27 IO2N/~{CSO} (io), 28 IO10 (io), 29 IO11/VS2 (io), 30 IO12/VS1 (io), 31 IO13/VS0 (io), 32 IO14 (io), 33 IO15 (io), 34 IO16 (io), 35 IO17 (io), 36 IO7P (io), 37 IO7N (io), 38 VCC (power), 39 IN/VREF (in), 40 IO6P/GCLK14 (io), 41 IO6N/GCLK15 (io), 42 GND (power), 43 IO5P/GCLK0 (io), 44 IO5N/GCLK1 (io), 45 VIO (power), 46 IO18/MOSI (io), 47 GND (power), 48 IO4P/~{INIT} (io), 49 IO4N (io), 50 IO19 (io), 51 IO20/DIN (io), 52 IO21 (io), 53 IO22/CCLK (io), 54 DONE (oe), 55 VAUX (power), 56 IO1P (io), 57 IO1N (io), 58 GND (power), 59 IO2P/HCLK0 (io), 60 IO2N/HCLK1 (io), 61 IO3P/HCLK2 (io), 62 IO3N/HCLK3 (io), 63 GND (power), 64 IO4P/HCLK6 (io), 65 IO4N/HCLK7 (io), 66 VCC (power), 67 VIO (power), 68 IN/VREF (in), 69 GND (power), 70 IO5P (io), 71 IO5N (io), 72 IO6P (io), 73 IO6N (io), 74 GND (power), 75 TDO (out), 76 TCK (in), 77 IO1P/VREF (io), 78 IO1N (io), 79 VIO (power), 80 GND (power), 81 VCC (power), 82 IN/VREF (in), 83 IO2P/GCLK4 (io), 84 IO2N/GCLK5 (io), 85 IO3P/GCLK6 (io), 86 IO3N/GCLK7 (io), 87 GND (power), 88 IO4P/GCLK8 (io), 89 IO4N/GCLK9 (io), 90 IO11/GCLK11 (io), 91 GND (power), 92 VAUX (power), 93 IO5P (io), 94 IO5N (io), 95 GND (power), 96 VIO (power), 97 IN (in), 98 IO6P/VREF (io), 99 IO6N/~{PUDC} (io), 100 ~{PROG} (oe)
text: PLM

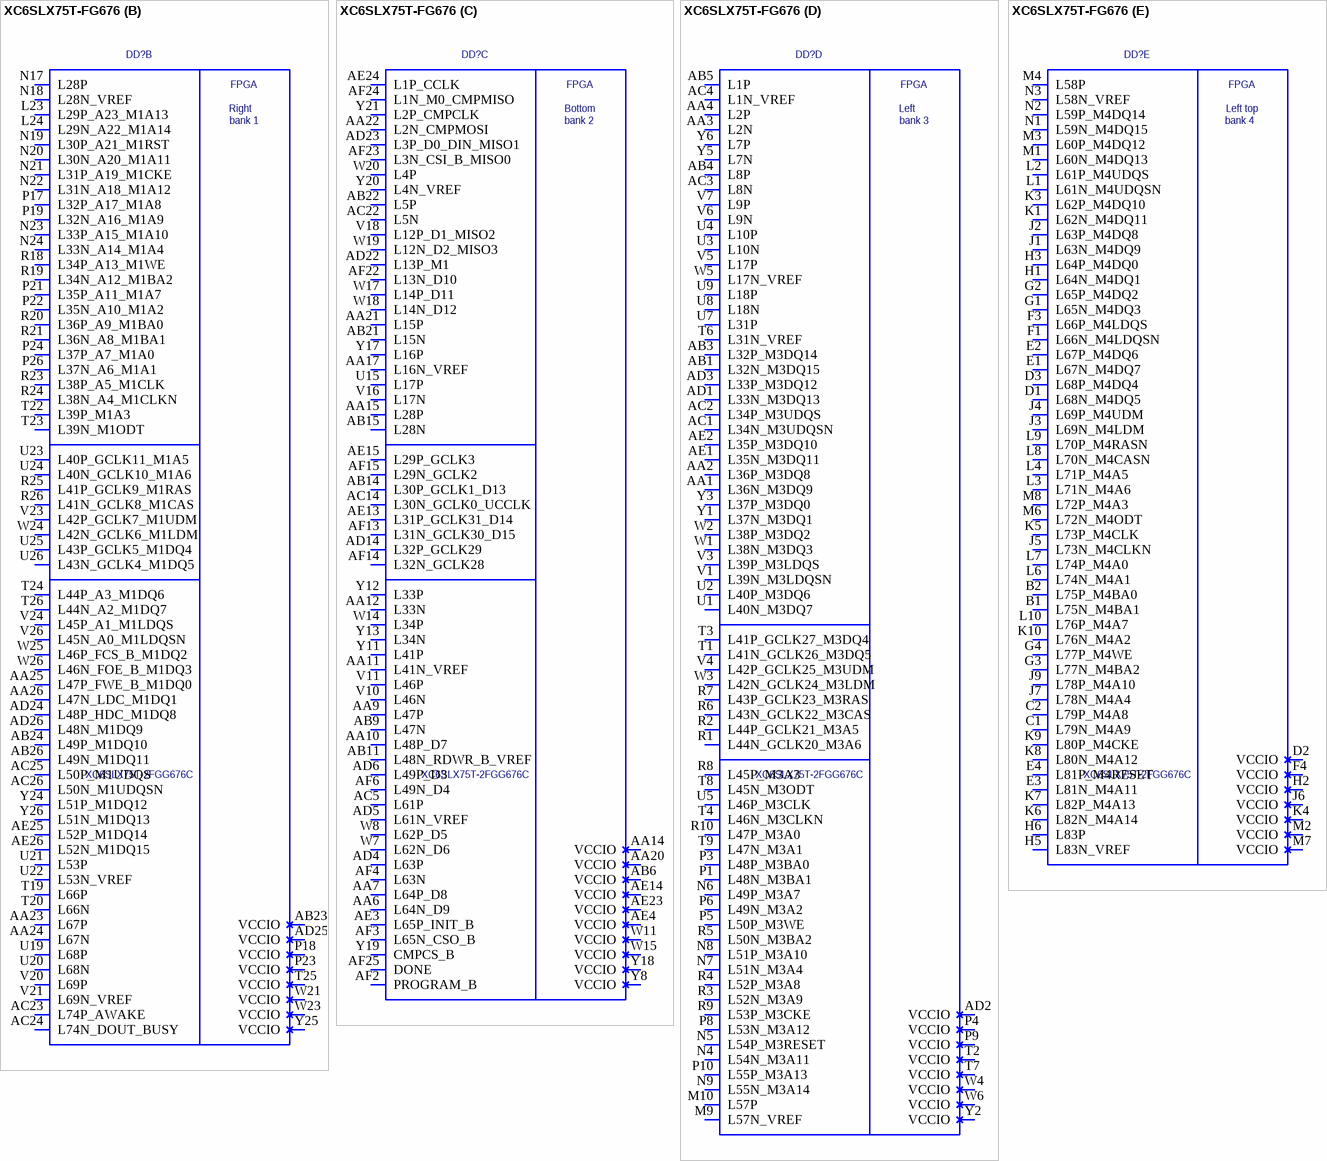
[diagram p3: symbol XC6SLX75T-FG676]

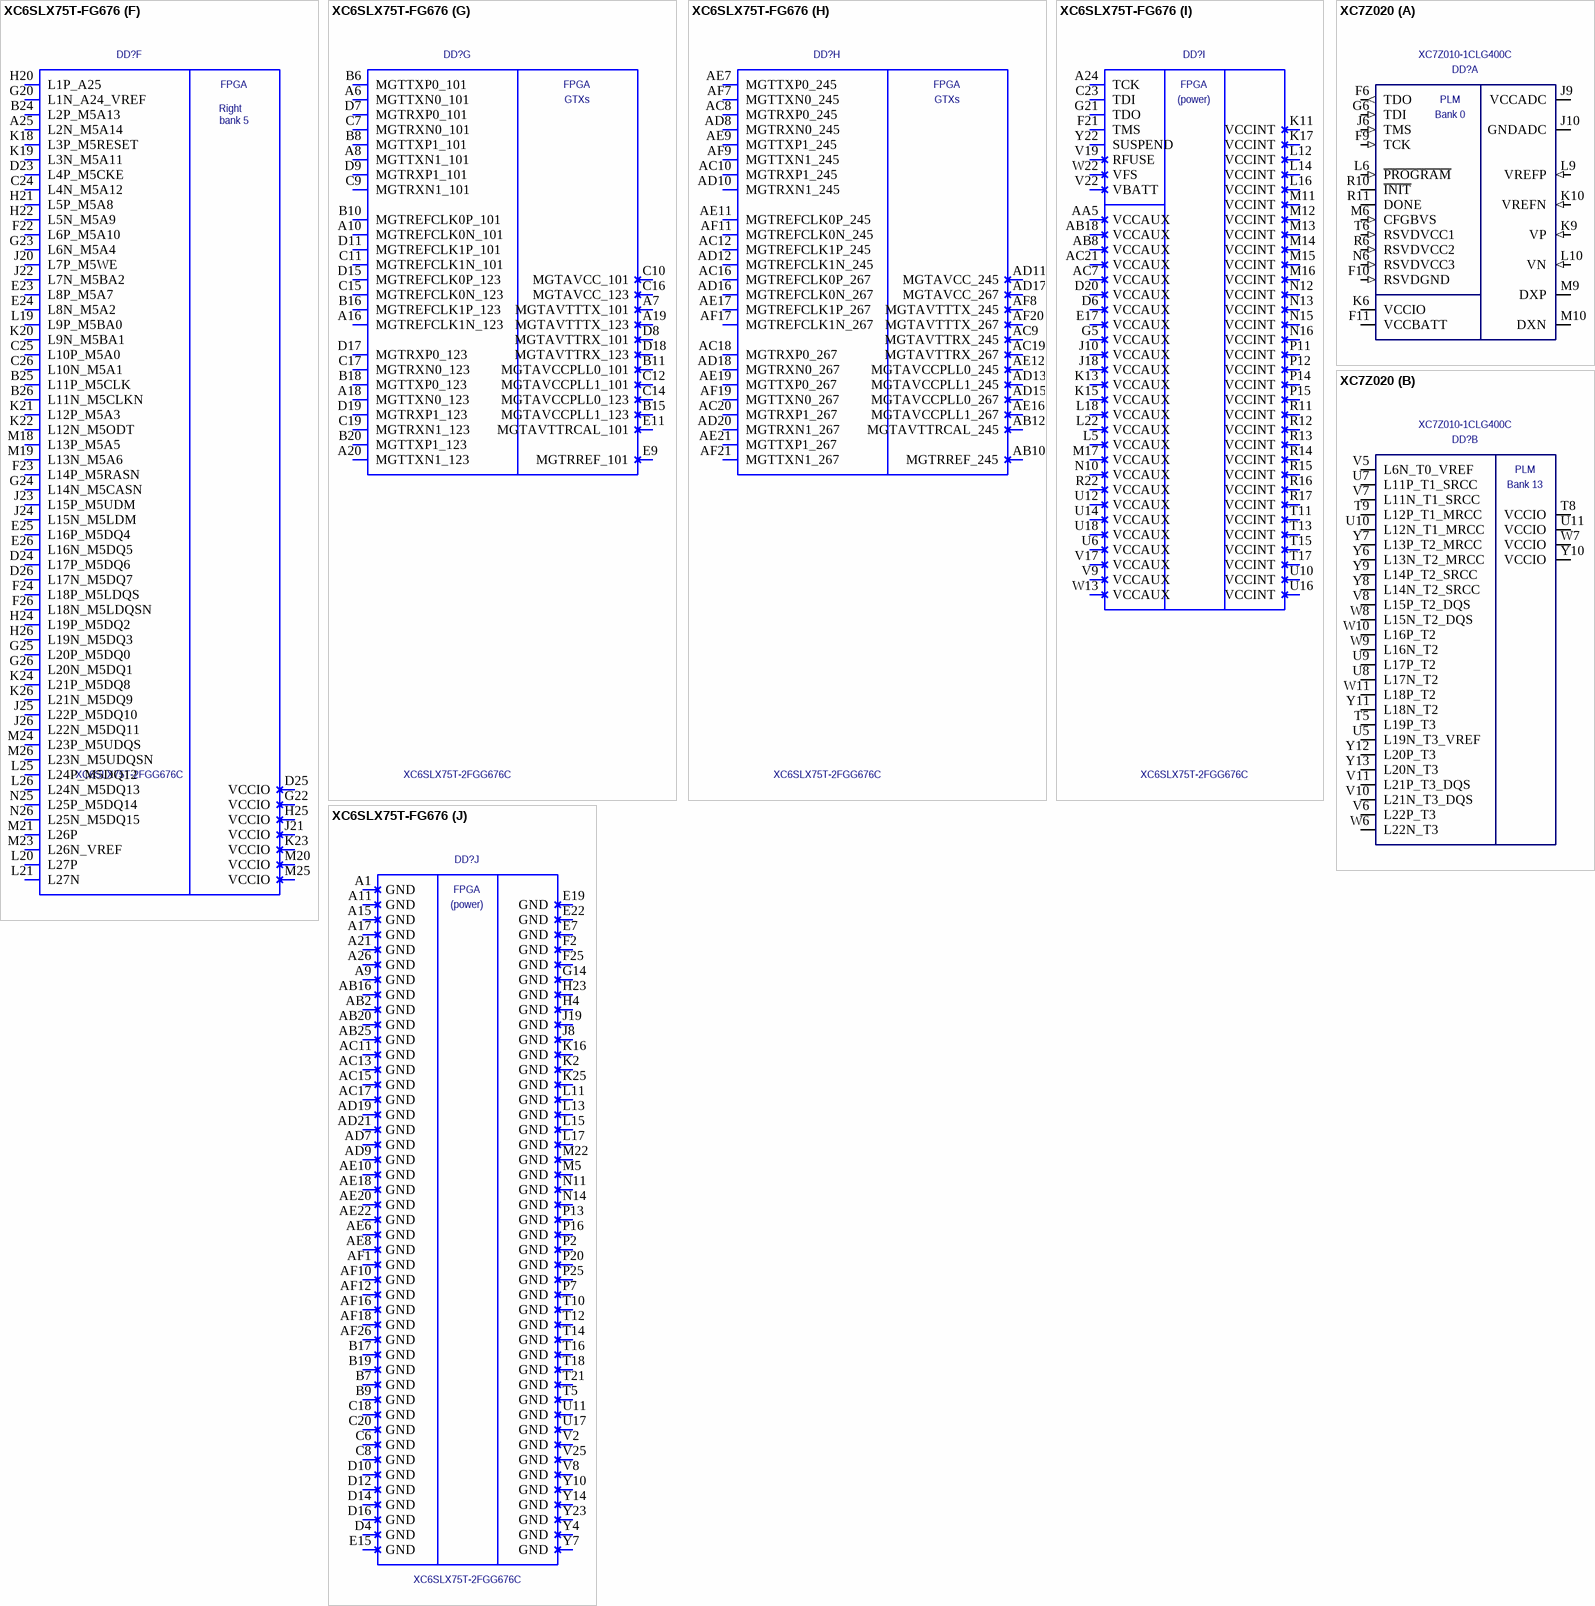
[diagram p4: symbols XC6SLX75T-FG676 to XC7Z020]

## XC6SLX75T-FG676
designator DD?  value XC6SLX75T-2FGG676C  (hidden comment: XC6SLX75T-FG676)
footprint FBGA-676
part A pins: A2 L14N, A3 L14P, A4 L22N, A5 L24N, A12 L36N_GCLK14, A13 L35N_GCLK16, A14 L37N_GCLK12, A22 L63N_SCP6, A23 L65N_SCP2, B3 L4N, B4 L22P, B5 L24P, B12 L36P_GCLK15, B13 VCCIO (power), B14 L37P_GCLK13, B21 L59N, B22 L63P_SCP7, B23 L65P_SCP3, C3 L4P, C4 VCCIO (power), C13 L35P_GCLK17, C21 L59P, C22 VCCIO (power), D13 L34N_GCLK18, D21 L66P_SCP1, D22 L66N_SCP0, E5 L8N_VREF, E6 L8P, E13 L34P_GCLK19, E20 L57N, E21 VCCIO (power), F5 L5N, F6 L3N, F7 L3P, F8 VCCIO (power), F13 VCCIO (power), F17 L56N, F19 L64N_SCP4, F20 L57P, G6 L5P, G7 L1N_VREF, G8 L2N, G9 L13N, G11 L32N, G13 L33N, G16 L56P, G17 L58N, G18 VCCIO (power), G19 L64P_SCP5, H7 L1P_HSWAPEN, H8 L2P, H9 L13P, H11 VCCIO (power), H12 L33P, H15 L43N, H16 VCCIO (power), H17 L58P, H18 L62P, H19 L62N_VREF, J11 L32P, J12 L38N_VREF, J14 VCCIO (power), J15 L43P, J16 L48P, J17 L48N, K12 L38P
part B pins: AA23 L67P, AA24 L67N, AA25 L47P_FWE_B_M1DQ0, AA26 L47N_LDC_M1DQ1, AB23 VCCIO (power), AB24 L49P_M1DQ10, AB26 L49N_M1DQ11, AC23 L74P_AWAKE, AC24 L74N_DOUT_BUSY, AC25 L50P_M1UDQS, AC26 L50N_M1UDQSN, AD24 L48P_HDC_M1DQ8, AD25 VCCIO (power), AD26 L48N_M1DQ9, AE25 L52P_M1DQ14, AE26 L52N_M1DQ15, L23 L29P_A23_M1A13, L24 L29N_A22_M1A14, N17 L28P, N18 L28N_VREF, N19 L30P_A21_M1RST, N20 L30N_A20_M1A11, N21 L31P_A19_M1CKE, N22 L31N_A18_M1A12, N23 L33P_A15_M1A10, N24 L33N_A14_M1A4, P17 L32P_A17_M1A8, P18 VCCIO (power), P19 L32N_A16_M1A9, P21 L35P_A11_M1A7, P22 L35N_A10_M1A2, P23 VCCIO (power), P24 L37P_A7_M1A0, P26 L37N_A6_M1A1, R18 L34P_A13_M1WE, R19 L34N_A12_M1BA2, R20 L36P_A9_M1BA0, R21 L36N_A8_M1BA1, R23 L38P_A5_M1CLK, R24 L38N_A4_M1CLKN, R25 L41P_GCLK9_M1RAS, R26 L41N_GCLK8_M1CAS, T19 L66P, T20 L66N, T22 L39P_M1A3, T23 L39N_M1ODT, T24 L44P_A3_M1DQ6, T25 VCCIO (power), T26 L44N_A2_M1DQ7, U19 L68P, U20 L68N, U21 L53P, U22 L53N_VREF, U23 L40P_GCLK11_M1A5, U24 L40N_GCLK10_M1A6, U25 L43P_GCLK5_M1DQ4, U26 L43N_GCLK4_M1DQ5, V20 L69P, V21 L69N_VREF, V23 L42P_GCLK7_M1UDM, V24 L45P_A1_M1LDQS, V26 L45N_A0_M1LDQSN, W21 VCCIO (power), W23 VCCIO (power), W24 L42N_GCLK6_M1LDM, W25 L46P_FCS_B_M1DQ2, W26 L46N_FOE_B_M1DQ3, Y24 L51P_M1DQ12, Y25 VCCIO (power), Y26 L51N_M1DQ13
part C pins: AA6 L64N_D9, AA7 L64P_D8, AA9 L47P, AA10 L48P_D7, AA11 L41N_VREF, AA12 L33N, AA14 VCCIO (power), AA15 L28P, AA17 L16N_VREF, AA20 VCCIO (power), AA21 L15P, AA22 L2N_CMPMOSI, AB6 VCCIO (power), AB9 L47N, AB11 L48N_RDWR_B_VREF, AB14 L30P_GCLK1_D13, AB15 L28N, AB21 L15N, AB22 L5P, AC5 L61P, AC14 L30N_GCLK0_UCCLK, AC22 L5N, AD4 L63P, AD5 L61N_VREF, AD6 L49P_D3, AD14 L32P_GCLK29, AD22 L13P_M1, AD23 L3P_D0_DIN_MISO1, AE3 L65P_INIT_B, AE4 VCCIO (power), AE13 L31P_GCLK31_D14, AE14 VCCIO (power), AE15 L29P_GCLK3, AE23 VCCIO (power), AE24 L1P_CCLK, AF2 PROGRAM_B, AF3 L65N_CSO_B, AF4 L63N, AF6 L49N_D4, AF13 L31N_GCLK30_D15, AF14 L32N_GCLK28, AF15 L29N_GCLK2, AF22 L13N_D10, AF23 L3N_CSI_B_MISO0, AF24 L1N_M0_CMPMISO, AF25 DONE, U15 L17P, V10 L46N, V11 L46P, V16 L17N, V18 L12P_D1_MISO2, W7 L62N_D6, W8 L62P_D5, W11 VCCIO (power), W14 L34P, W15 VCCIO (power), W17 L14P_D11, W18 L14N_D12, W19 L12N_D2_MISO3, W20 L4P, Y8 VCCIO (power), Y11 L41P, Y12 L33P, Y13 L34N, Y17 L16P, Y18 VCCIO (power), Y19 CMPCS_B, Y20 L4N_VREF, Y21 L2P_CMPCLK
part D pins: AA1 L36N_M3DQ9, AA2 L36P_M3DQ8, AA3 L2N, AA4 L2P, AB1 L32N_M3DQ15, AB3 L32P_M3DQ14, AB4 L8P, AB5 L1P, AC1 L34N_M3UDQSN, AC2 L34P_M3UDQS, AC3 L8N, AC4 L1N_VREF, AD1 L33N_M3DQ13, AD2 VCCIO (power), AD3 L33P_M3DQ12, AE1 L35N_M3DQ11, AE2 L35P_M3DQ10, M9 L57N_VREF, M10 L57P, N4 L54N_M3A11, N5 L54P_M3RESET, N6 L49P_M3A7, N7 L51N_M3A4, N8 L51P_M3A10, N9 L55N_M3A14, P1 L48N_M3BA1, P3 L48P_M3BA0, P4 VCCIO (power), P5 L50P_M3WE, P6 L49N_M3A2, P8 L53N_M3A12, P9 VCCIO (power), P10 L55P_M3A13, R1 L44N_GCLK20_M3A6, R2 L44P_GCLK21_M3A5, R3 L52N_M3A9, R4 L52P_M3A8, R5 L50N_M3BA2, R6 L43N_GCLK22_M3CAS, R7 L43P_GCLK23_M3RAS, R8 L45P_M3A3, R9 L53P_M3CKE, R10 L47P_M3A0, T1 L41N_GCLK26_M3DQ5, T2 VCCIO (power), T3 L41P_GCLK27_M3DQ4, T4 L46N_M3CLKN, T6 L31N_VREF, T7 VCCIO (power), T8 L45N_M3ODT, T9 L47N_M3A1, U1 L40N_M3DQ7, U2 L40P_M3DQ6, U3 L10N, U4 L10P, U5 L46P_M3CLK, U7 L31P, U8 L18N, U9 L18P, V1 L39N_M3LDQSN, V3 L39P_M3LDQS, V4 L42P_GCLK25_M3UDM, V5 L17P, V6 L9N, V7 L9P, W1 L38N_M3DQ3, W2 L38P_M3DQ2, W3 L42N_GCLK24_M3LDM, W4 VCCIO (power), W5 L17N_VREF, W6 VCCIO (power), Y1 L37N_M3DQ1, Y2 VCCIO (power), Y3 L37P_M3DQ0, Y5 L7N, Y6 L7P
part E pins: B1 L75N_M4BA1, B2 L75P_M4BA0, C1 L79N_M4A9, C2 L79P_M4A8, D1 L68N_M4DQ5, D2 VCCIO (power), D3 L68P_M4DQ4, E1 L67N_M4DQ7, E2 L67P_M4DQ6, E3 L81N_M4A11, E4 L81P_M4RESET, F1 L66N_M4LDQSN, F3 L66P_M4LDQS, F4 VCCIO (power), G1 L65N_M4DQ3, G2 L65P_M4DQ2, G3 L77N_M4BA2, G4 L77P_M4WE, H1 L64N_M4DQ1, H2 VCCIO (power), H3 L64P_M4DQ0, H5 L83N_VREF, H6 L83P, J1 L63N_M4DQ9, J2 L63P_M4DQ8, J3 L69N_M4LDM, J4 L69P_M4UDM, J5 L73N_M4CLKN, J6 VCCIO (power), J7 L78N_M4A4, J9 L78P_M4A10, K1 L62N_M4DQ11, K3 L62P_M4DQ10, K4 VCCIO (power), K5 L73P_M4CLK, K6 L82N_M4A14, K7 L82P_M4A13, K8 L80N_M4A12, K9 L80P_M4CKE, K10 L76N_M4A2, L1 L61N_M4UDQSN, L2 L61P_M4UDQS, L3 L71N_M4A6, L4 L71P_M4A5, L6 L74N_M4A1, L7 L74P_M4A0, L8 L70N_M4CASN, L9 L70P_M4RASN, L10 L76P_M4A7, M1 L60N_M4DQ13, M2 VCCIO (power), M3 L60P_M4DQ12, M4 L58P, M6 L72N_M4ODT, M7 VCCIO (power), M8 L72P_M4A3, N1 L59N_M4DQ15, N2 L59P_M4DQ14, N3 L58N_VREF
part F pins: A25 L2N_M5A14, B24 L2P_M5A13, B25 L11P_M5CLK, B26 L11N_M5CLKN, C24 L4N_M5A12, C25 L10P_M5A0, C26 L10N_M5A1, D23 L4P_M5CKE, D24 L17P_M5DQ6, D25 VCCIO (power), D26 L17N_M5DQ7, E23 L8P_M5A7, E24 L8N_M5A2, E25 L16P_M5DQ4, E26 L16N_M5DQ5, F22 L6P_M5A10, F23 L14P_M5RASN, F24 L18P_M5LDQS, F26 L18N_M5LDQSN, G20 L1N_A24_VREF, G22 VCCIO (power), G23 L6N_M5A4, G24 L14N_M5CASN, G25 L20P_M5DQ0, G26 L20N_M5DQ1, H20 L1P_A25, H21 L5P_M5A8, H22 L5N_M5A9, H24 L19P_M5DQ2, H25 VCCIO (power), H26 L19N_M5DQ3, J20 L7P_M5WE, J21 VCCIO (power), J22 L7N_M5BA2, J23 L15P_M5UDM, J24 L15N_M5LDM, J25 L22P_M5DQ10, J26 L22N_M5DQ11, K18 L3P_M5RESET, K19 L3N_M5A11, K20 L9N_M5BA1, K21 L12P_M5A3, K22 L12N_M5ODT, K23 VCCIO (power), K24 L21P_M5DQ8, K26 L21N_M5DQ9, L19 L9P_M5BA0, L20 L27P, L21 L27N, L25 L24P_M5DQ12, L26 L24N_M5DQ13, M18 L13P_M5A5, M19 L13N_M5A6, M20 VCCIO (power), M21 L26P, M23 L26N_VREF, M24 L23P_M5UDQS, M25 VCCIO (power), M26 L23N_M5UDQSN, N25 L25P_M5DQ14, N26 L25N_M5DQ15
part G pins: A6 MGTTXN0_101, A7 MGTAVTTTX_101 (power), A8 MGTTXN1_101, A10 MGTREFCLK0N_101, A16 MGTREFCLK1N_123, A18 MGTTXN0_123, A19 MGTAVTTTX_123 (power), A20 MGTTXN1_123, B6 MGTTXP0_101, B8 MGTTXP1_101, B10 MGTREFCLK0P_101, B11 MGTAVCCPLL0_101 (power), B15 MGTAVCCPLL1_123 (power), B16 MGTREFCLK1P_123, B18 MGTTXP0_123, B20 MGTTXP1_123, C7 MGTRXN0_101, C9 MGTRXN1_101, C10 MGTAVCC_101 (power), C11 MGTREFCLK1N_101, C12 MGTAVCCPLL1_101 (power), C14 MGTAVCCPLL0_123 (power), C15 MGTREFCLK0N_123, C16 MGTAVCC_123 (power), C17 MGTRXN0_123, C19 MGTRXN1_123, D7 MGTRXP0_101, D8 MGTAVTTRX_101 (power), D9 MGTRXP1_101, D11 MGTREFCLK1P_101, D15 MGTREFCLK0P_123, D17 MGTRXP0_123, D18 MGTAVTTRX_123 (power), D19 MGTRXP1_123, E9 MGTRREF_101, E11 MGTAVTTRCAL_101 (power)
part H pins: AB10 MGTRREF_245, AB12 MGTAVTTRCAL_245 (power), AC8 MGTRXP0_245, AC9 MGTAVTTRX_245 (power), AC10 MGTRXP1_245, AC12 MGTREFCLK1P_245, AC16 MGTREFCLK0P_267, AC18 MGTRXP0_267, AC19 MGTAVTTRX_267 (power), AC20 MGTRXP1_267, AD8 MGTRXN0_245, AD10 MGTRXN1_245, AD11 MGTAVCC_245 (power), AD12 MGTREFCLK1N_245, AD13 MGTAVCCPLL1_245 (power), AD15 MGTAVCCPLL0_267 (power), AD16 MGTREFCLK0N_267, AD17 MGTAVCC_267 (power), AD18 MGTRXN0_267, AD20 MGTRXN1_267, AE7 MGTTXP0_245, AE9 MGTTXP1_245, AE11 MGTREFCLK0P_245, AE12 MGTAVCCPLL0_245 (power), AE16 MGTAVCCPLL1_267 (power), AE17 MGTREFCLK1P_267, AE19 MGTTXP0_267, AE21 MGTTXP1_267, AF7 MGTTXN0_245, AF8 MGTAVTTTX_245 (power), AF9 MGTTXN1_245, AF11 MGTREFCLK0N_245, AF17 MGTREFCLK1N_267, AF19 MGTTXN0_267, AF20 MGTAVTTTX_267 (power), AF21 MGTTXN1_267
part I pins: A24 TCK, AA5 VCCAUX (power), AB8 VCCAUX (power), AB18 VCCAUX (power), AC7 VCCAUX (power), AC21 VCCAUX (power), C23 TDI, D6 VCCAUX (power), D20 VCCAUX (power), E17 VCCAUX (power), F21 TMS, G5 VCCAUX (power), G21 TDO, J10 VCCAUX (power), J18 VCCAUX (power), K11 VCCINT (power), K13 VCCAUX (power), K15 VCCAUX (power), K17 VCCINT (power), L5 VCCAUX (power), L12 VCCINT (power), L14 VCCINT (power), L16 VCCINT (power), L18 VCCAUX (power), L22 VCCAUX (power), M11 VCCINT (power), M12 VCCINT (power), M13 VCCINT (power), M14 VCCINT (power), M15 VCCINT (power), M16 VCCINT (power), M17 VCCAUX (power), N10 VCCAUX (power), N12 VCCINT (power), N13 VCCINT (power), N15 VCCINT (power), N16 VCCINT (power), P11 VCCINT (power), P12 VCCINT (power), P14 VCCINT (power), P15 VCCINT (power), R11 VCCINT (power), R12 VCCINT (power), R13 VCCINT (power), R14 VCCINT (power), R15 VCCINT (power), R16 VCCINT (power), R17 VCCINT (power), R22 VCCAUX (power), T11 VCCINT (power), T13 VCCINT (power), T15 VCCINT (power), T17 VCCINT (power), U6 VCCAUX (power), U10 VCCINT (power), U12 VCCAUX (power), U14 VCCAUX (power), U16 VCCINT (power), U18 VCCAUX (power), V9 VCCAUX (power), V17 VCCAUX (power), V19 RFUSE, V22 VBATT (power), W13 VCCAUX (power), W22 VFS (power), Y22 SUSPEND
part J pins: A1 GND (power), A9 GND (power), A11 GND (power), A15 GND (power), A17 GND (power), A21 GND (power), A26 GND (power), AB2 GND (power), AB16 GND (power), AB20 GND (power), AB25 GND (power), AC11 GND (power), AC13 GND (power), AC15 GND (power), AC17 GND (power), AD7 GND (power), AD9 GND (power), AD19 GND (power), AD21 GND (power), AE6 GND (power), AE8 GND (power), AE10 GND (power), AE18 GND (power), AE20 GND (power), AE22 GND (power), AF1 GND (power), AF10 GND (power), AF12 GND (power), AF16 GND (power), AF18 GND (power), AF26 GND (power), B7 GND (power), B9 GND (power), B17 GND (power), B19 GND (power), C6 GND (power), C8 GND (power), C18 GND (power), C20 GND (power), D4 GND (power), D10 GND (power), D12 GND (power), D14 GND (power), D16 GND (power), E7 GND (power), E15 GND (power), E19 GND (power), E22 GND (power), F2 GND (power), F25 GND (power), G14 GND (power), H4 GND (power), H23 GND (power), J8 GND (power), J19 GND (power), K2 GND (power), K16 GND (power), K25 GND (power), L11 GND (power), L13 GND (power), L15 GND (power), L17 GND (power), M5 GND (power), M22 GND (power), N11 GND (power), N14 GND (power), P2 GND (power), P7 GND (power), P13 GND (power), P16 GND (power), P20 GND (power), P25 GND (power), T5 GND (power), T10 GND (power), T12 GND (power), T14 GND (power), T16 GND (power), T18 GND (power), T21 GND (power), U11 GND (power), U17 GND (power), V2 GND (power), V8 GND (power), V25 GND (power), Y4 GND (power), Y7 GND (power), Y10 GND (power), Y14 GND (power), Y23 GND (power)
part A text: FPGA; Top; bank 0
part B text: FPGA; Right; bank 1
part C text: FPGA; Bottom; bank 2
part D text: FPGA; Left; bank 3
part E text: FPGA; Left top; bank 4
part F text: FPGA; Right; bank 5
part G text: FPGA; GTXs
part H text: FPGA; GTXs
part I text: FPGA; (power)
part J text: FPGA; (power)

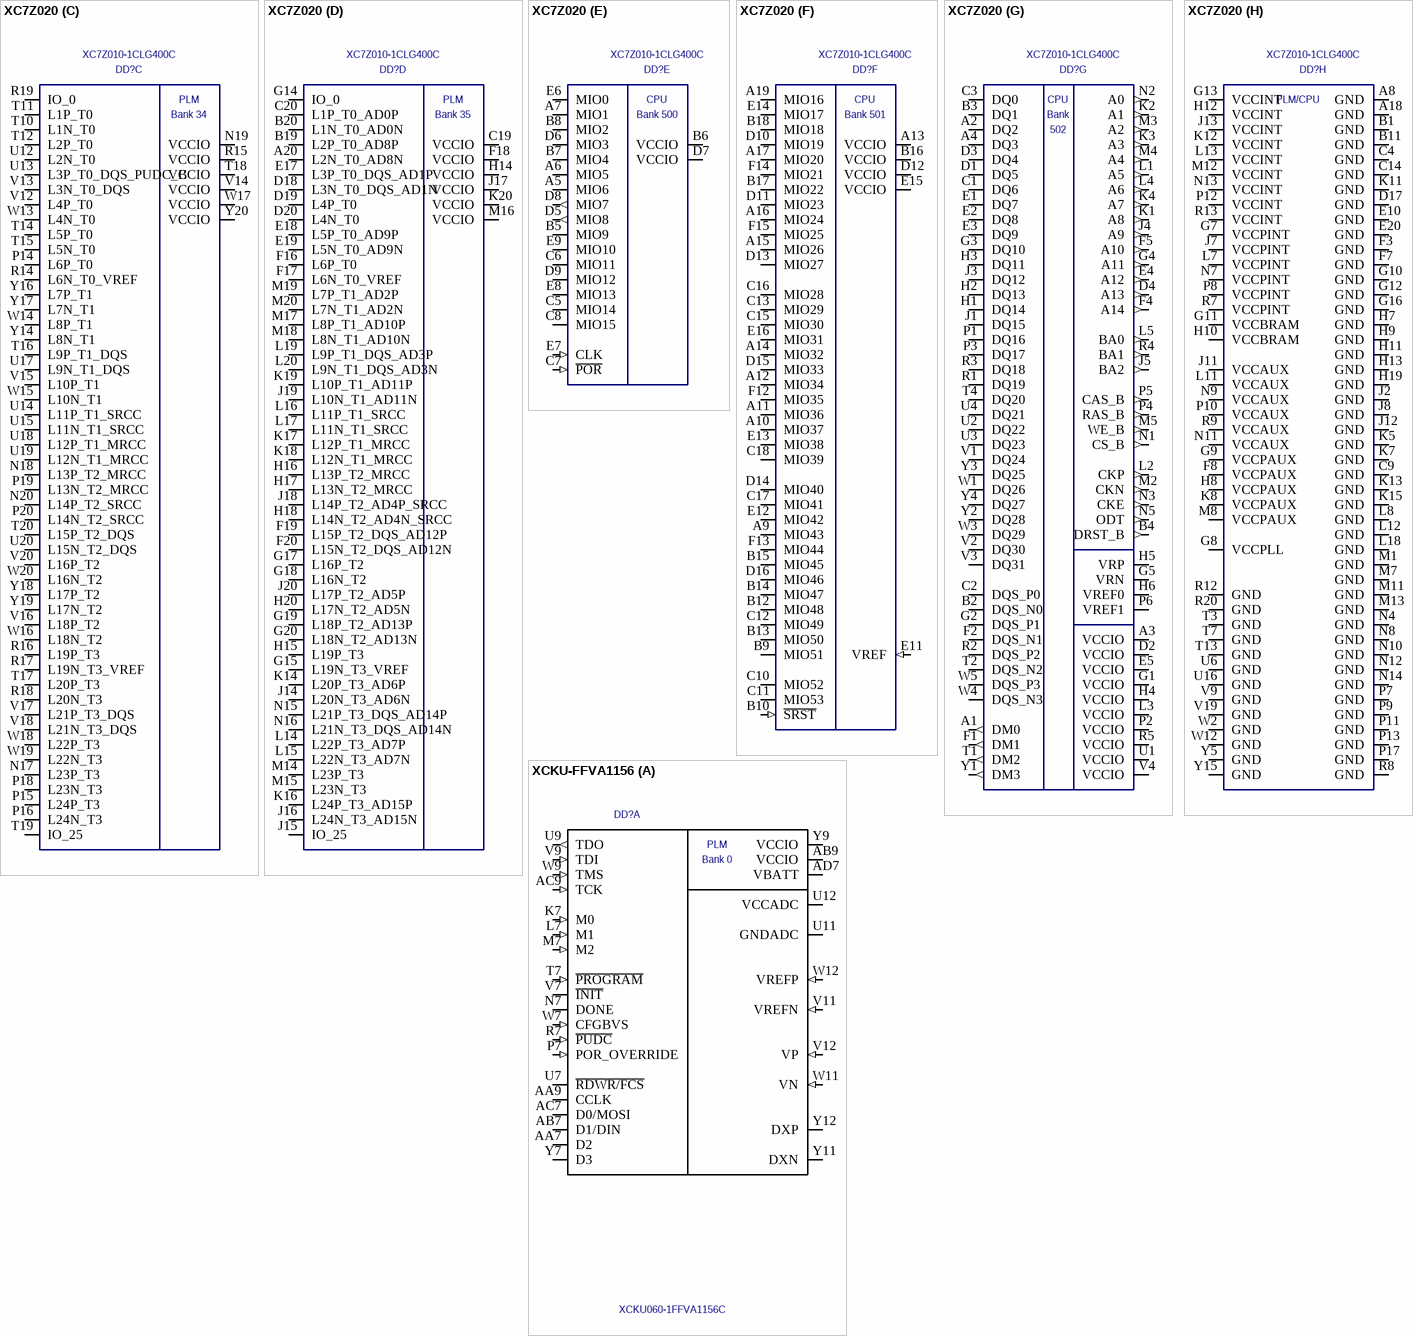
[diagram p5: symbols XC7Z020 to XCKU-FFVA1156]